# EAGLE library part 67996-X-06-YYY (library FCI)
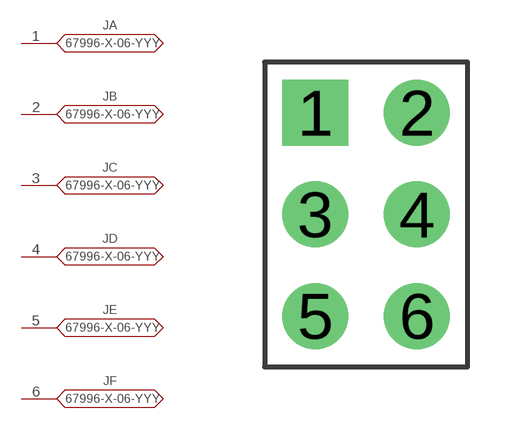
[diagram p0: symbol with the pads of 67996-X-06; footprint 67996-X-06]

Designator prefix J; gates A=67996-X-YY-ZZZ B=67996-X-YY-ZZZ C=67996-X-YY-ZZZ D=67996-X-YY-ZZZ E=67996-X-YY-ZZZ F=67996-X-YY-ZZZ

## 67996-X-06-YYY  [67996-X-06]
1  A:P$1  pas
2  B:P$1  pas
3  C:P$1  pas
4  D:P$1  pas
5  E:P$1  pas
6  F:P$1  pas

## Footprint 67996-X-06 (pad centres in mm)
drill 1.1 square: 1 -1.27,2.54
drill 1.1: 2 1.27,2.54; 3 -1.27,0; 4 1.27,0; 5 -1.27,-2.54; 6 1.27,-2.54